# EAGLE library part AVR_ISP (library FaBo-PIN)
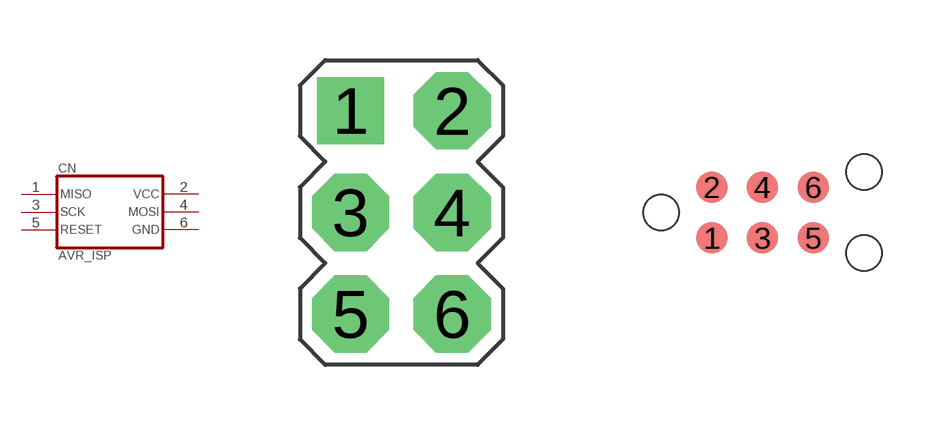
[diagram p9: symbol with the pads of PIN_2X3; footprints PIN_2X3, TC2030]

Designator prefix CN

## AVR_ISP-PTH  [PIN_2X3]
1  1  pas
2  2  pas
3  3  pas
4  4  pas
5  5  pas
6  6  pas

## AVR_ISP-TC2030_NOHOLE  [TC2030]
Pads as for PIN_2X3

## AVR_ISP-TC2030  [TC2030-MCP]
Pads as for PIN_2X3

## Footprint PIN_2X3 (pad centres in mm)
drill 1.1 pad 1.676 square: 1 -1.27,2.54
drill 1.1 pad 1.93 octagon: 2 1.27,2.54; 3 -1.27,0; 4 1.27,0; 5 -1.27,-2.54; 6 1.27,-2.54

## Footprint TC2030 (pad centres in mm)
smd 0.787 x 0.787: 1 -1.27,-0.635; 2 -1.27,0.635; 3 0,-0.635; 4 0,0.635; 5 1.27,-0.635; 6 1.27,0.635
hole 0.889 at -2.54,0
hole 0.889 at 2.54,-1.016
hole 0.889 at 2.54,1.016

## Footprint TC2030-MCP (pad centres in mm)
smd 0.787 x 0.787: 1 -1.27,-0.635; 2 -1.27,0.635; 3 0,-0.635; 4 0,0.635; 5 1.27,-0.635; 6 1.27,0.635
hole 0.889 at -2.54,0
hole 0.889 at 2.54,-1.016
hole 0.889 at 2.54,1.016
hole 2.375 at -2.54,2.54
hole 2.375 at -2.54,-2.54
hole 2.375 at 0.635,-2.54
hole 2.375 at 0.635,2.54